# Altium footprint library SER2918H-682KL.PcbLib: 1 footprints
Each footprint in its own frame and in the unit in brackets; x right, y up, seen from the top. Pads: shape width x height; smd on the part's side, far side on the other; paste and mask are expansions set on the pad; w line width, h text height; cw(c..) or ccw(c..) is an arc to the next point about the centre after c.
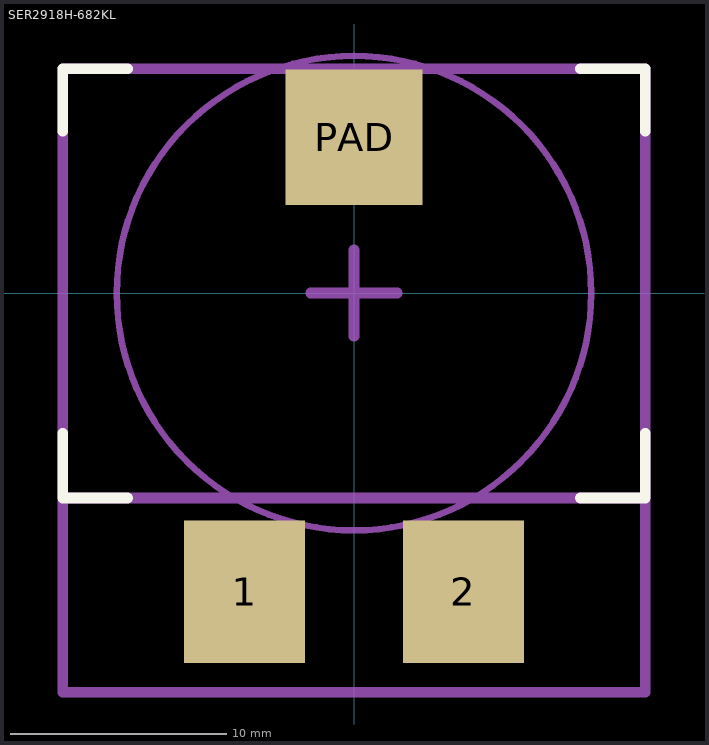
[diagram p0: the footprint, top view; thin cyan lines are the x and y axes]

## SER2918H-682KL [mm]
pads (3):
  rect 5.6x6.6 smd: 1(-5.075,-13.85) 2(5.075,-13.85)
  rect 6.35x6.28 smd: PAD(0,7.22)
Top Overlay:
  lines w0.5: -13.5,-6.5 -13.5,-9.5 -10.5,-9.5 ; -13.5,7.5 -13.5,10.4 -10.5,10.4 ; 10.5,-9.5 13.5,-9.5 13.5,-6.5 ; 13.5,7.5 13.5,10.4 ; 13.5,10.4 10.5,10.4 13.5,10.4
Mechanical 15:
  circle w0.3: c0,0 r11
  lines w0.5: -13.5,-9.4 -13.5,10.4 13.5,10.4 13.5,-9.4 13.5,-18.5 8.8,-18.5 -13.5,-18.5 -13.5,-9.5 13.5,-9.5 ; -2,0 2,0 ; 0,-2 0,2
3D body "User Library-SER2918.STEP": height 17.2, standoff 0, extent -13.513,-16.257 13.487,10.415